# Altium schematic symbol library lm2907.SchLib: 1 symbol
Pins are listed as number, name and electrical type; pins without a type are passive.

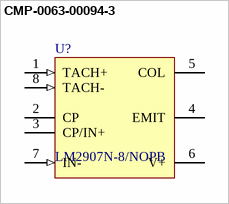
[diagram p0: symbol CMP-0063-00094-3]

## CMP-0063-00094-3
designator U?, comment LM2907N-8/NOPB
Frequency to Voltage Converter, 8-pin MDIP, Pb-Free; Manufacturer: Texas Instruments; CompType: MiscPower; PowerWise: N; PackageTopMarking: NSUZXYTTE#*LM*2907N-8; PinCount: 8; Code_JEDEC: MS-001-BA; PackageReference: P0008A; ComponentLink1URL: http://www.ti.com/general/docs/lit/getliterature.tsp?genericPartNumber=LM2907-N&fileType=pdf; PackageDescription: MDIP, .365 x .250 x .130in, 8 Lead, .100in Pitch; RoHS: Y; ComponentLink1Description: Datasheet URL
footprint P0008A (DIP, 8-Leads, Body 10.15x6.6mm, Pitch 2.54mm)
pins: 1 TACH+ (in), 2 CP, 3 CP/IN+, 4 EMIT, 5 COL, 6 V+ (power), 7 IN- (in), 8 TACH- (in)